# EAGLE library part 181-044-113R531 (library D-Sub Connectors)
CONN DSUB HD PLUG 44POS R/A SLDR Manufacturer's datasheet <https://www.norcomp.net/rohspdfs/Connectors/18Y/181/181-YYY-113RYY1.pdf>
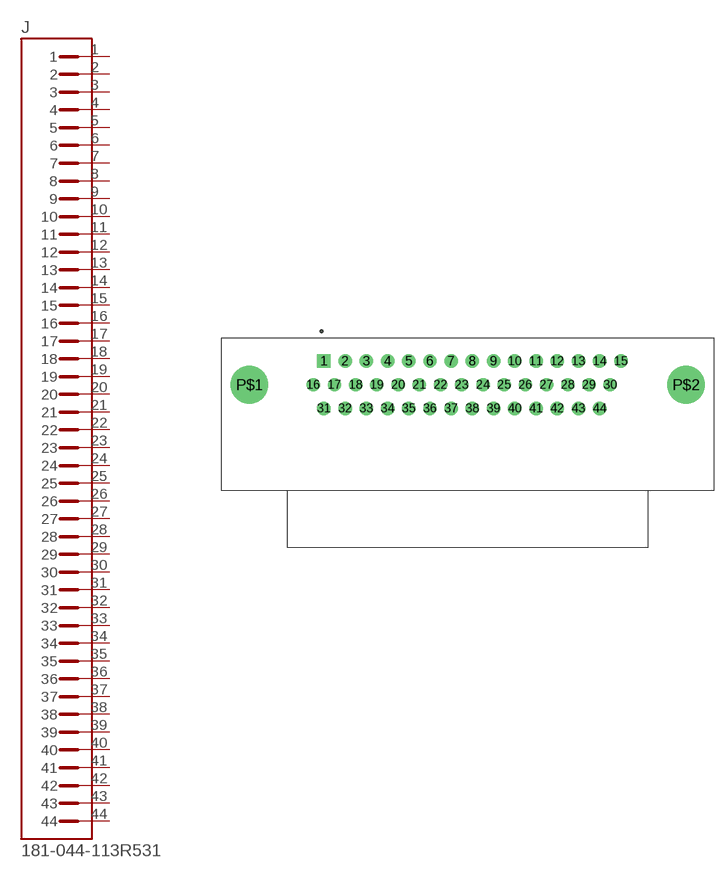
[diagram p17: symbol with the pads of 181-044-113R531; footprint 181-044-113R531]

Designator prefix J

## 181-044-113R531 (CREATED_BY: PCBLayout.com; DIGIKEY_PART_NO: 181-144RME-ND; MANUFACTURER: NorComp Inc.; MPN: 181-044-113R531)  [181-044-113R531]
1  1  pas
2  2  pas
3  3  pas
4  4  pas
5  5  pas
6  6  pas
7  7  pas
8  8  pas
9  9  pas
10  10  pas
11  11  pas
12  12  pas
13  13  pas
14  14  pas
15  15  pas
16  16  pas
17  17  pas
18  18  pas
19  19  pas
20  20  pas
21  21  pas
22  22  pas
23  23  pas
24  24  pas
25  25  pas
26  26  pas
27  27  pas
28  28  pas
29  29  pas
30  30  pas
31  31  pas
32  32  pas
33  33  pas
34  34  pas
35  35  pas
36  36  pas
37  37  pas
38  38  pas
39  39  pas
40  40  pas
41  41  pas
42  42  pas
43  43  pas
44  44  pas

## Footprint 181-044-113R531 (pad centres in mm)
drill 0.94 square: 1 -15.494,2.54
drill 0.94: 2 -13.208,2.54; 3 -10.922,2.54; 4 -8.636,2.54; 5 -6.35,2.54; 6 -4.064,2.54; 7 -1.778,2.54; 8 0.508,2.54; 9 2.794,2.54; 10 5.08,2.54; 11 7.366,2.54; 12 9.652,2.54; 13 11.938,2.54; 14 14.224,2.54; 15 16.51,2.54; 16 -16.637,0; 17 -14.351,0; 18 -12.065,0; 19 -9.779,0; 20 -7.493,0; 21 -5.207,0; 22 -2.921,0; 23 -0.635,0; 24 1.651,0; 25 3.937,0; 26 6.223,0; 27 8.509,0; 28 10.795,0; 29 13.081,0; 30 15.367,0; 31 -15.494,-2.54; 32 -13.208,-2.54; 33 -10.922,-2.54; 34 -8.636,-2.54; 35 -6.35,-2.54; 36 -4.064,-2.54; 37 -1.778,-2.54; 38 0.508,-2.54; 39 2.794,-2.54; 40 5.08,-2.54; 41 7.366,-2.54; 42 9.652,-2.54; 43 11.938,-2.54; 44 14.224,-2.54
drill 3.048: P$1 -23.52,0; P$2 23.52,0